# Altium footprint library mxj_wwy.PcbLib: 18 footprints (part 1 of 2)
Each footprint in its own frame and in the unit in brackets; x right, y up, seen from the top. Pads: shape width x height; smd on the part's side, far side on the other; paste and mask are expansions set on the pad; w line width, h text height; cw(c..) or ccw(c..) is an arc to the next point about the centre after c.
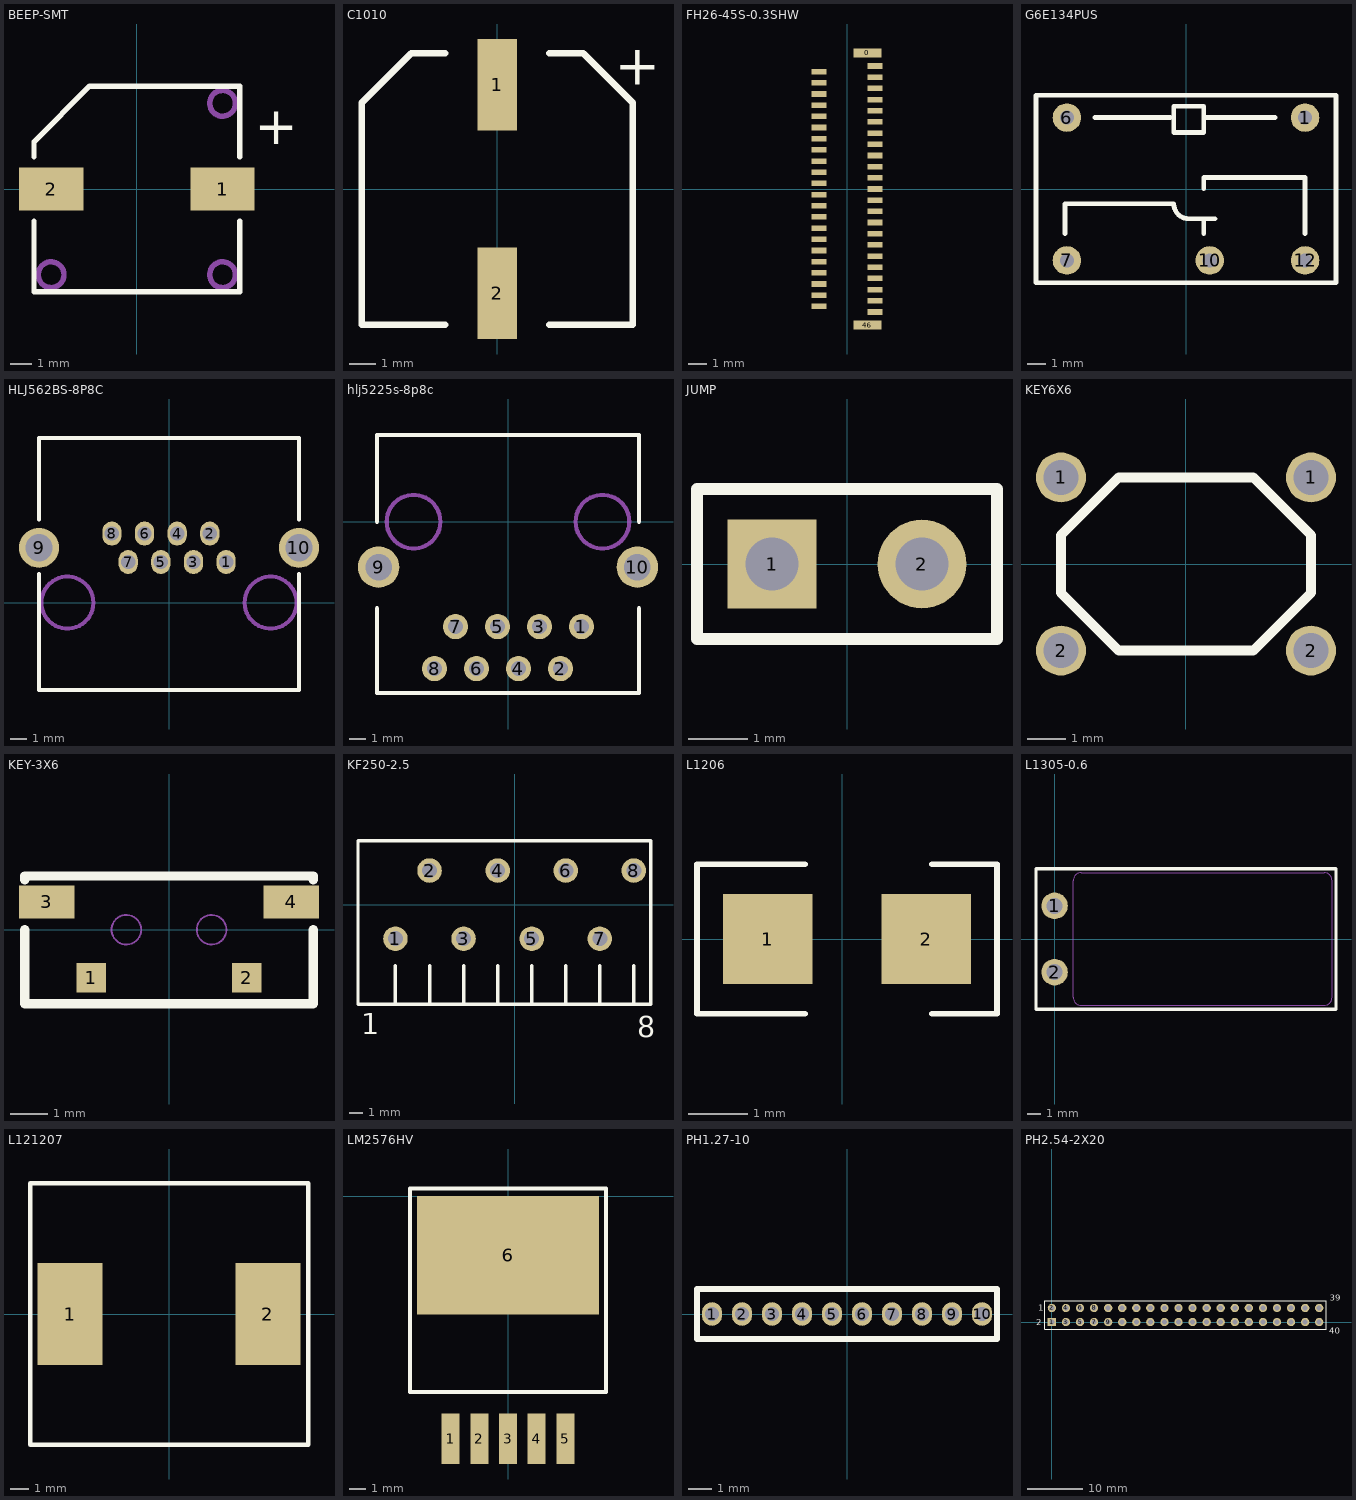
[diagram p0: the footprints below, top view; thin cyan lines are the x and y axes]

## BEEP-SMT [mm]
pads (2):
  rect 3x2 smd: 1(4,0) 2(-4,0)
Top Overlay:
  lines w0.254: -4.8,-1.5 -4.8,-4.8 4.8,-4.8 4.8,-1.5 ; -4.8,1.5 -4.8,2.2 -2.2,4.8 4.8,4.8 4.8,1.5
  text "+" at 5.5,1.5 h3
Mechanical 1:
  circle w0.254: c-4,-4 r0.6
  circle w0.254: c4,-4 r0.6
  circle w0.254: c4,4 r0.6
  circle w0.254: c4,4 r0.6
3D body: height 5, standoff 0, extent -4.8,-4.8 4.8,4.8

## C1010 [mm]
height 10.2
pads (2):
  rect 1.5x3.5 smd: 1(0,4) 2(0,-4)
Top Overlay:
  lines w0.254: -2,-5.2 -5.2,-5.2 -5.2,0 -5.2,3.3 -3.3,5.2 -2,5.2 ; 2,-5.2 5.2,-5.2 5.2,3.3 3.3,5.2 2,5.2
  text "+" at 4.5,4 h1.52
3D body: height 10, standoff 0, extent -5,-5.1 5,5.1

## FH26-45S-0.3SHW [mm]
height 2
pads (47):
  rect 1.5x0.5 smd: 0(1.1,7.3) 46(1.1,-7.3)
  rect 0.8x0.3 smd: 1(1.5,6.6) 2(-1.5,6.3) 3(1.5,6) 4(-1.5,5.7) 5(1.5,5.4) 6(-1.5,5.1) 7(1.5,4.8) 8(-1.5,4.5) 9(1.5,4.2) 10(-1.5,3.9) 11(1.5,3.6) 12(-1.5,3.3) 13(1.5,3) 14(-1.5,2.7) 15(1.5,2.4) 16(-1.5,2.1) 17(1.5,1.8) 18(-1.5,1.5) 19(1.5,1.2) 20(-1.5,0.9) 21(1.5,0.6) 22(-1.5,0.3) 23(1.5,0) 24(-1.5,-0.3) 25(1.5,-0.6) 26(-1.5,-0.9) 27(1.5,-1.2) 28(-1.5,-1.5) 29(1.5,-1.8) 30(-1.5,-2.1) 31(1.5,-2.4) 32(-1.5,-2.7) 33(1.5,-3) 34(-1.5,-3.3) 35(1.5,-3.6) 36(-1.5,-3.9) 37(1.5,-4.2) 38(-1.5,-4.5) 39(1.5,-4.8) 40(-1.5,-5.1) 41(1.5,-5.4) 42(-1.5,-5.7) 43(1.5,-6) 44(-1.5,-6.3) 45(1.5,-6.6)
3D body: height 1, standoff 0, extent -1.75,-7.5 1.75,7.5

## G6E134PUS [mil]
height 314.96
pads (5):
  round 60 hole 30: 1(250,150) 6(-250,150) 7(-250,-150) 10(50,-150) 12(250,-150)
Top Overlay:
  lines w10: -253.94,-94.09 -253.94,-31.1 -25.59,-31.1 ccw(c5.91,-31.1) 5.91,-62.6 61.02,-62.6 ; -190.94,150 -33.46,150 ; 37.4,-94.09 37.4,-62.6 ; 37.4,0.39 37.4,24.02 250,24.02 250,-94.09 ; 37.4,150 187.01,150 ; -314.96,-196.85 -314.96,196.85 314.96,196.85 314.96,-196.85 -314.96,-196.85 ; -25.59,118.5 -25.59,173.62 37.4,173.62 37.4,118.5 -25.59,118.5
3D body: height 314.96, standoff 0, extent -311.02,-196.85 318.9,196.85

## HLJ562BS-8P8C [mm]
pads (10):
  oval 1.2x1.5 hole 0.9: 1(3.57,2.54) 2(2.55,4.32) 3(1.53,2.54) 4(0.51,4.32) 5(-0.51,2.54) 6(-1.53,4.32) 7(-2.55,2.54) 8(-3.57,4.32)
  round 2.5 hole 1.7: 9(-8.125,3.43) 10(8.125,3.43)
Top Overlay:
  lines w0.254: -8.125,1.8 -8.125,-5.46 8.125,-5.46 8.125,1.8 ; -8.125,5.2 -8.125,10.29 8.125,10.29 8.125,5.2
Mechanical 1:
  circle w0.254: c-6.35,0 r1.625
  circle w0.254: c6.35,0 r1.625
3D body: height 13.1, standoff -3, extent -8.1,-5.45 8.15,10.25

## hlj5225s-8p8c [mm]
height 12.9
pads (10):
  round 1.524 hole 0.9: 1(4.445,-6.35) 2(3.175,-8.89) 3(1.905,-6.35) 4(0.635,-8.89) 5(-0.635,-6.35) 6(-1.905,-8.89) 7(-3.175,-6.35) 8(-4.445,-8.89)
  round 2.5 hole 1.6: 9(-7.825,-2.75) 10(7.825,-2.75)
Top Overlay:
  lines w0.254: -7.925,-5.24 -7.925,-10.36 7.925,-10.36 7.925,-5.24 ; -7.925,0 -7.925,5.24 7.925,5.24 7.925,0
Mechanical 1:
  circle w0.254: c5.715,0 r1.625
  circle w0.254: c-5.715,0 r1.625
3D body: height 12.9, standoff -3.2, extent -7.925,-10.3 7.925,5.3

## JUMP [mm]
pads (2):
  rect 1.5x1.5 hole 0.9: 1(-1.27,0)
  round 1.5 hole 0.9: 2(1.27,0)
Top Overlay:
  lines w0.2: -2.54,-1.27 -2.54,1.27 2.54,1.27 2.54,-1.27 -2.54,-1.27
3D body: height 13, standoff 0, extent -2.6,-1.27 2.4,1.27

## KEY6X6 [mm]
pads (4):
  round 1.3 hole 0.9: 1(-3.25,2.25) 1(3.25,2.25) 2(-3.25,-2.25) 2(3.25,-2.25)
Top Overlay:
  lines w0.254: -3.25,-0.75 -3.25,0.75 -1.75,2.25 0,2.25 1.75,2.25 3.25,0.75 3.25,-0.75 1.75,-2.25 -1.75,-2.25 -3.25,-0.75

## KEY-3X6 [mm]
pads (4):
  rect 0.8x0.8 smd: 1(-2.1,-1.3) 2(2.1,-1.3)
  rect 1.5x0.9 smd: 3(-3.3,0.75) 4(3.3,0.75)
Top Overlay:
  lines w0.254: -3.9,-2 3.9,-2 ; -3.9,-1.95 -3.9,0 ; -3.9,1.35 -3.9,1.45 3.9,1.45 3.9,1.35 ; 3.9,-1.95 3.9,0
Mechanical 1:
  circle w0.05: c1.15,0 r0.4
  circle w0.05: c-1.15,0 r0.4
3D body: height 3.5, standoff -0.8, extent -3.9,-1.5 3.9,2.1

## KF250-2.5 [mm] "8pchatou"
height 0.305
pads (8):
  round 1.8 hole 1.1: 1(-8.75,-2.5) 2(-6.25,2.5) 3(-3.75,-2.5) 4(-1.25,2.5) 5(1.25,-2.5) 6(3.75,2.5) 7(6.25,-2.5) 8(8.75,2.5)
Top Overlay:
  lines w0.254: -8.75,-7.3 -8.75,-4.5 ; -6.25,-7.3 -6.25,-4.5 ; -3.75,-7.3 -3.75,-4.5 ; -1.25,-7.3 -1.25,-4.5 ; 1.25,-7.3 1.25,-4.5 ; 3.75,-7.3 3.75,-4.5 ; 6.25,-7.3 6.25,-4.5 ; 8.75,-7.3 8.75,-4.5 ; -11.5,-7.3 10,-7.3 10,4.7 -11.5,4.7 -11.5,-7.3
  text "8" at 8.996,-9.754 h1.52
  text "1" at -11.25,-9.5 h1.52
3D body: height 13.06, standoff -3.7, extent -11.5,-7.3 10,4.7

## L1206 [mil]
pads (2):
  rect 60x60 smd: 1(-50,0) 2(56.3,0)
Top Overlay:
  lines w3.94: -25,-50 -97.24,-50 -97.24,50 -25,50 ; 60,-50 103.54,-50 103.54,50 60,50
3D body: height 43.31, standoff 0, extent -60.74,-32 65.24,30.99

## L1305-0.6 [mm]
height 13
pads (2):
  round 2 hole 1.2: 1(0,2.5) 2(0,-2.5)
Top Overlay:
  lines w0.254: -1.4,-5.3 -1.4,5.3 21.2,5.3 21.2,-5.3 -1.4,-5.3
Mechanical 1:
  lines w0.01: 1.4,-4.4 ccw(c2,-4.4) 2,-5 20.3,-5 ccw(c20.3,-4.4) 20.9,-4.4 20.9,4.4 ccw(c20.3,4.4) 20.3,5 2,5 ccw(c2,4.4) 1.4,4.4 1.4,-4.4
3D body: height 6.5, standoff -6.5, extent 4.2,-2.5 17.2,2.5

## L121207 [mm]
height 7
pads (2):
  rect 3.5x5.5 smd: 1(-5.334,0) 2(5.334,0)
Top Overlay:
  lines w0.254: -7.481,-7.048 7.505,-7.048 7.505,7.048 -7.481,7.048 -7.481,-7.048
3D body: height 7, standoff 0, extent -6,-6 6,6

## LM2576HV [mm]
height 5
pads (6):
  rect 1.07x3 smd: 1(-3.4,-14.37) 2(-1.7,-14.37) 3(0,-14.37) 4(1.7,-14.37) 5(3.4,-14.37)
  rect 10.8x7 smd: 6(0,-3.5)
Top Overlay:
  lines w0.254: -5.8,-11.6 -5.8,0.453 5.8,0.453 5.8,-11.6 -5.8,-11.6
3D body: height 4.57, standoff 0, extent -5.06,-15.075 5.1,-0.725

## PH1.27-10 [mm]
height 4
pads (10):
  oval 0.85x1 hole 0.6: 1(-5.715,0) 2(-4.445,0) 3(-3.175,0) 4(-1.905,0) 5(-0.635,0) 6(0.635,0) 7(1.905,0) 8(3.175,0) 9(4.445,0) 10(5.715,0)
Top Overlay:
  lines w0.254: -6.35,-1.05 -6.35,0 -6.35,1.05 6.35,1.05 6.35,-1.05 -6.35,-1.05

## PH2.54-2X20 [mm]
pads (40):
  rect 1.5x1.5 hole 0.9: 1(0,0)
  round 1.5 hole 0.9: 2(0,2.54) 3(2.54,0) 4(2.54,2.54) 5(5.08,0) 6(5.08,2.54) 7(7.62,0) 8(7.62,2.54) 9(10.16,0) 10(10.16,2.54) 11(12.7,0) 12(12.7,2.54) 13(15.24,0) 14(15.24,2.54) 15(17.78,0) 16(17.78,2.54) 17(20.32,0) 18(20.32,2.54) 19(22.86,0) 20(22.86,2.54) 21(25.4,0) 22(25.4,2.54) 23(27.94,0) 24(27.94,2.54) 25(30.48,0) 26(30.48,2.54) 27(33.02,0) 28(33.02,2.54) 29(35.56,0) 30(35.56,2.54) 31(38.1,0) 32(38.1,2.54) 33(40.64,0) 34(40.64,2.54) 35(43.18,0) 36(43.18,2.54) 37(45.72,0) 38(45.72,2.54) 39(48.26,0) 40(48.26,2.54)
Top Overlay:
  lines w0.2: -1.27,-1.27 49.53,-1.27 49.53,3.81 -1.27,3.81 -1.27,-1.27
  text "1" at -2.466,2.03 h1.1
  text "2" at -2.866,-0.57 h1.1
  text "40" at 50.056,-2.074 h1.1
  text "39" at 50.19,3.887 h1.1
3D body: height 13.51, standoff -2.99, extent -1.269,-1.21 49.529,3.87